# EAGLE library part TPS56X200 (library My_TI)
TPS56x200 4.5 V To 17 V Input, 2 A, 3 A Synchronous Step-Down Voltage Regulator. • Input Voltage Range: 4.5 V to 17 V. • Output Voltage Range: 0.76 V to 7 V. • 650 kHz Switching Frequency. Datasheet <http://www.ti.com/lit/ds/symlink/tps562200.pdf>
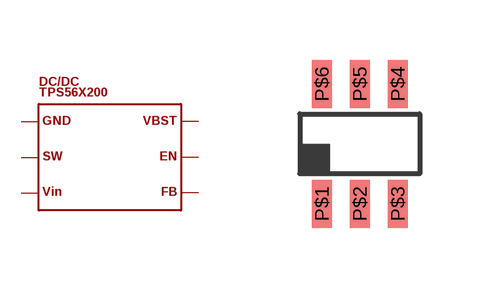
[diagram p44: symbol with the pads of PSO-6; footprint PSO-6]

Designator prefix DC/DC

## TPS56X200  [PSO-6]
P$1  P$1
P$2  P$2
P$3  P$3
P$4  P$4
P$5  P$5
P$6  P$6

## Footprint PSO-6 (pad centres in mm)
smd 0.5 x 1.2: P$1 -0.95,-1.5; P$2 0,-1.5; P$3 0.95,-1.5; P$4 0.95,1.5; P$5 0,1.5; P$6 -0.95,1.5